# Altium schematic symbol library max3232cdw.SchLib: 1 symbol
Pins are listed as number, name and electrical type; pins without a type are passive.

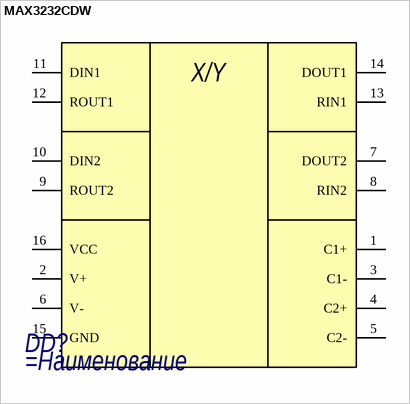
[diagram p0: symbol MAX3232CDW]

## MAX3232CDW
designator DD?
=Описание
pins: 1 C1+, 2 V+, 3 C1-, 4 C2+, 5 C2-, 6 V-, 7 DOUT2, 8 RIN2, 9 ROUT2, 10 DIN2, 11 DIN1, 12 ROUT1, 13 RIN1, 14 DOUT1, 15 GND, 16 VCC
text: X/Y